# EAGLE library part MSP430LAUNCHPAD_FULL (library msp430launchpad)
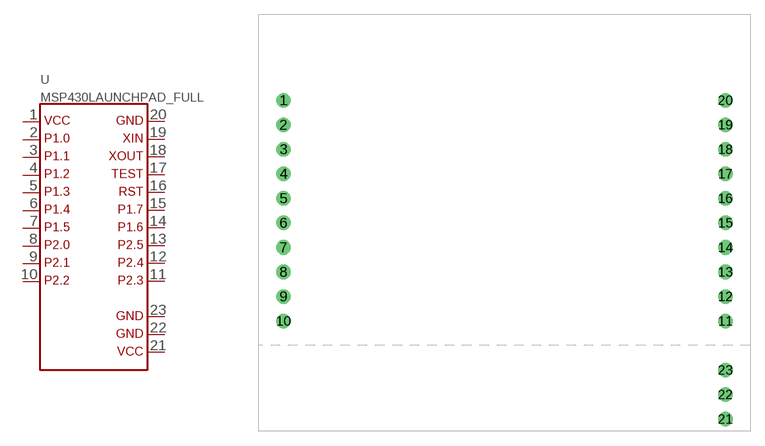
[diagram p0: symbol with the pads of MSP430LAUNCHPAD_FULL; footprint MSP430LAUNCHPAD_FULL]

Designator prefix -

## MSP430LAUNCHPAD_FULL  [MSP430LAUNCHPAD_FULL]
1  1
2  2
3  3
4  4
5  5
6  6
7  7
8  8
9  9
10  10
11  11
12  12
13  13
14  14
15  15
16  16
17  17
18  18
19  19
20  20
21  21
22  22
23  23

## Footprint MSP430LAUNCHPAD_FULL (pad centres in mm)
drill 1: 1 -22.86,11.43; 2 -22.86,8.89; 3 -22.86,6.35; 4 -22.86,3.81; 5 -22.86,1.27; 6 -22.86,-1.27; 7 -22.86,-3.81; 8 -22.86,-6.35; 9 -22.86,-8.89; 10 -22.86,-11.43; 11 22.86,-11.43; 12 22.86,-8.89; 13 22.86,-6.35; 14 22.86,-3.81; 15 22.86,-1.27; 16 22.86,1.27; 17 22.86,3.81; 18 22.86,6.35; 19 22.86,8.89; 20 22.86,11.43; 21 22.86,-21.59; 22 22.86,-19.05; 23 22.86,-16.51